# EAGLE library part SPI-LCD (library radish)
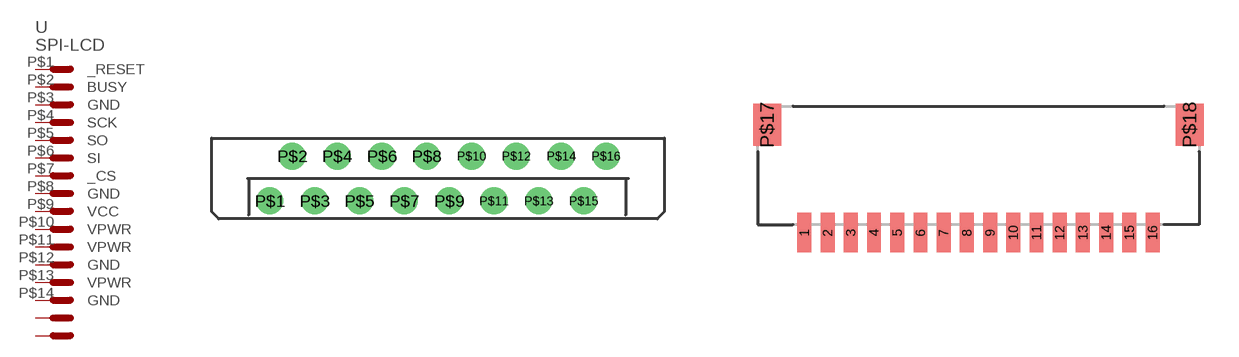
[diagram p1: symbol with the pads of 71226-1625; footprints 71226-1625, 16FMN-SMT-A-TF(LF)(SN)]

Designator prefix -

## SPI-LCDTHRU  [71226-1625]
P$1  _RESET  in
P$2  BUSY  out
P$3  GND  pwr
P$4  SCK  in
P$5  SO  out
P$6  SI  in
P$7  _CS  in
P$8  GND  pwr
P$9  VCC  pas
P$10  VPWR  pas
P$11  VPWR  pas
P$12  GND  pwr
P$13  VPWR  pas
P$14  GND  pwr
P$15  P$15  nc
P$16  P$16  nc

## SPI-LCDSMT  [16FMN-SMT-A-TF(LF)(SN)]
1  _RESET  in
2  BUSY  out
3  GND  pwr
4  SCK  in
5  SO  out
6  SI  in
7  _CS  in
8  GND  pwr
9  VCC  pas
10  VPWR  pas
11  VPWR  pas
12  GND  pwr
13  VPWR  pas
14  GND  pwr
15  P$15  nc
16  P$16  nc

## Footprint 71226-1625 (pad centres in mm)
drill 0.7 round: P$1 0,0; P$2 1,2; P$3 2,0; P$4 3,2; P$5 4,0; P$6 5,2; P$7 6,0; P$8 7,2; P$9 8,0; P$10 9,2; P$11 10,0; P$12 11,2; P$13 12,0; P$14 13,2; P$15 14,0; P$16 15,2

## Footprint 16FMN-SMT-A-TF(LF)(SN) (pad centres in mm)
smd 0.6 x 1.7: 1 0,0; 2 1,0; 3 2,0; 4 3,0; 5 4,0; 6 5,0; 7 6,0; 8 7,0; 9 8,0; 10 9,0; 11 10,0; 12 11,0; 13 12,0; 14 13,0; 15 14,0; 16 15,0
smd 1.2 x 1.8: P$17 -1.6,4.65; P$18 16.6,4.65